# EAGLE library part LM3478 (library JOSHUA)
LM3478x/-Q1 High-Efficiency Low-Side N-Channel Controller for Switching Regulator
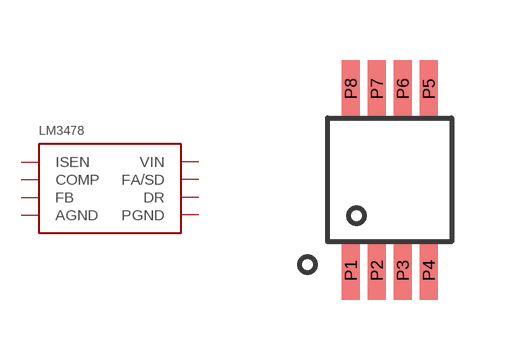
[diagram p10: symbol with the pads of VSSOP-8; footprint VSSOP-8]

Designator prefix U

## LM3478  [VSSOP-8]
P1  ISEN
P2  COMP
P3  FB
P4  AGND
P5  PGND
P6  DR
P7  FA/SD
P8  VIN

## Footprint VSSOP-8 (pad centres in mm)
smd 0.45 x 1.45: P1 -0.975,-2.275; P2 -0.325,-2.275; P3 0.325,-2.275; P4 0.975,-2.275; P5 0.975,2.275; P6 0.325,2.275; P7 -0.325,2.275; P8 -0.975,2.275